# Altium schematic symbol library calorieScale.SchLib: 2 symbols
Pins are listed as number, name and electrical type; pins without a type are passive.

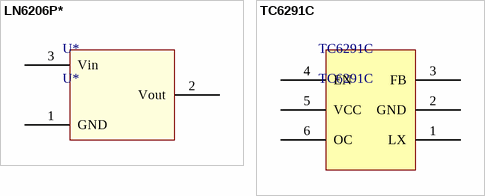
[diagram p0: symbols LN6206P* to TC6291C]

## LN6206P*
designator U*, comment U*
footprint SOT23-3L (SOT23, 3-Leads, Body 2.9x1.3mm, Pitch 0.95mm, Lead Span 2.4mm, IPC High Density)
pins: 1 GND, 2 Vout, 3 Vin

## TC6291C
designator TC6291C
footprint SOT23-6 (SOT-23, 6-Leads, Body 2.90x1.60mm, Pitch 0.95mm, IPC High Density)
pins: 1 LX, 2 GND, 3 FB, 4 EN, 5 VCC, 6 OC